# Altium schematic symbol library ciclo_lib.SchLib: 2 symbols
Pins are listed as number, name and electrical type; pins without a type are passive.

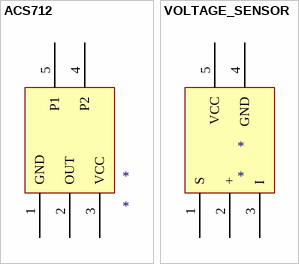
[diagram p0: symbols ACS712 to VOLTAGE_SENSOR]

## ACS712
designator *
footprint ACS712
pins: 1 GND, 2 OUT, 3 VCC, 4 P2, 5 P1

## VOLTAGE_SENSOR
designator *
footprint VOLTAGE_SENSOR_25V
pins: 1 S, 2 +, 3 I, 4 GND, 5 VCC